# Altium schematic symbol library diploma.SchLib: 30 symbols
Pins are listed as number, name and electrical type; pins without a type are passive.

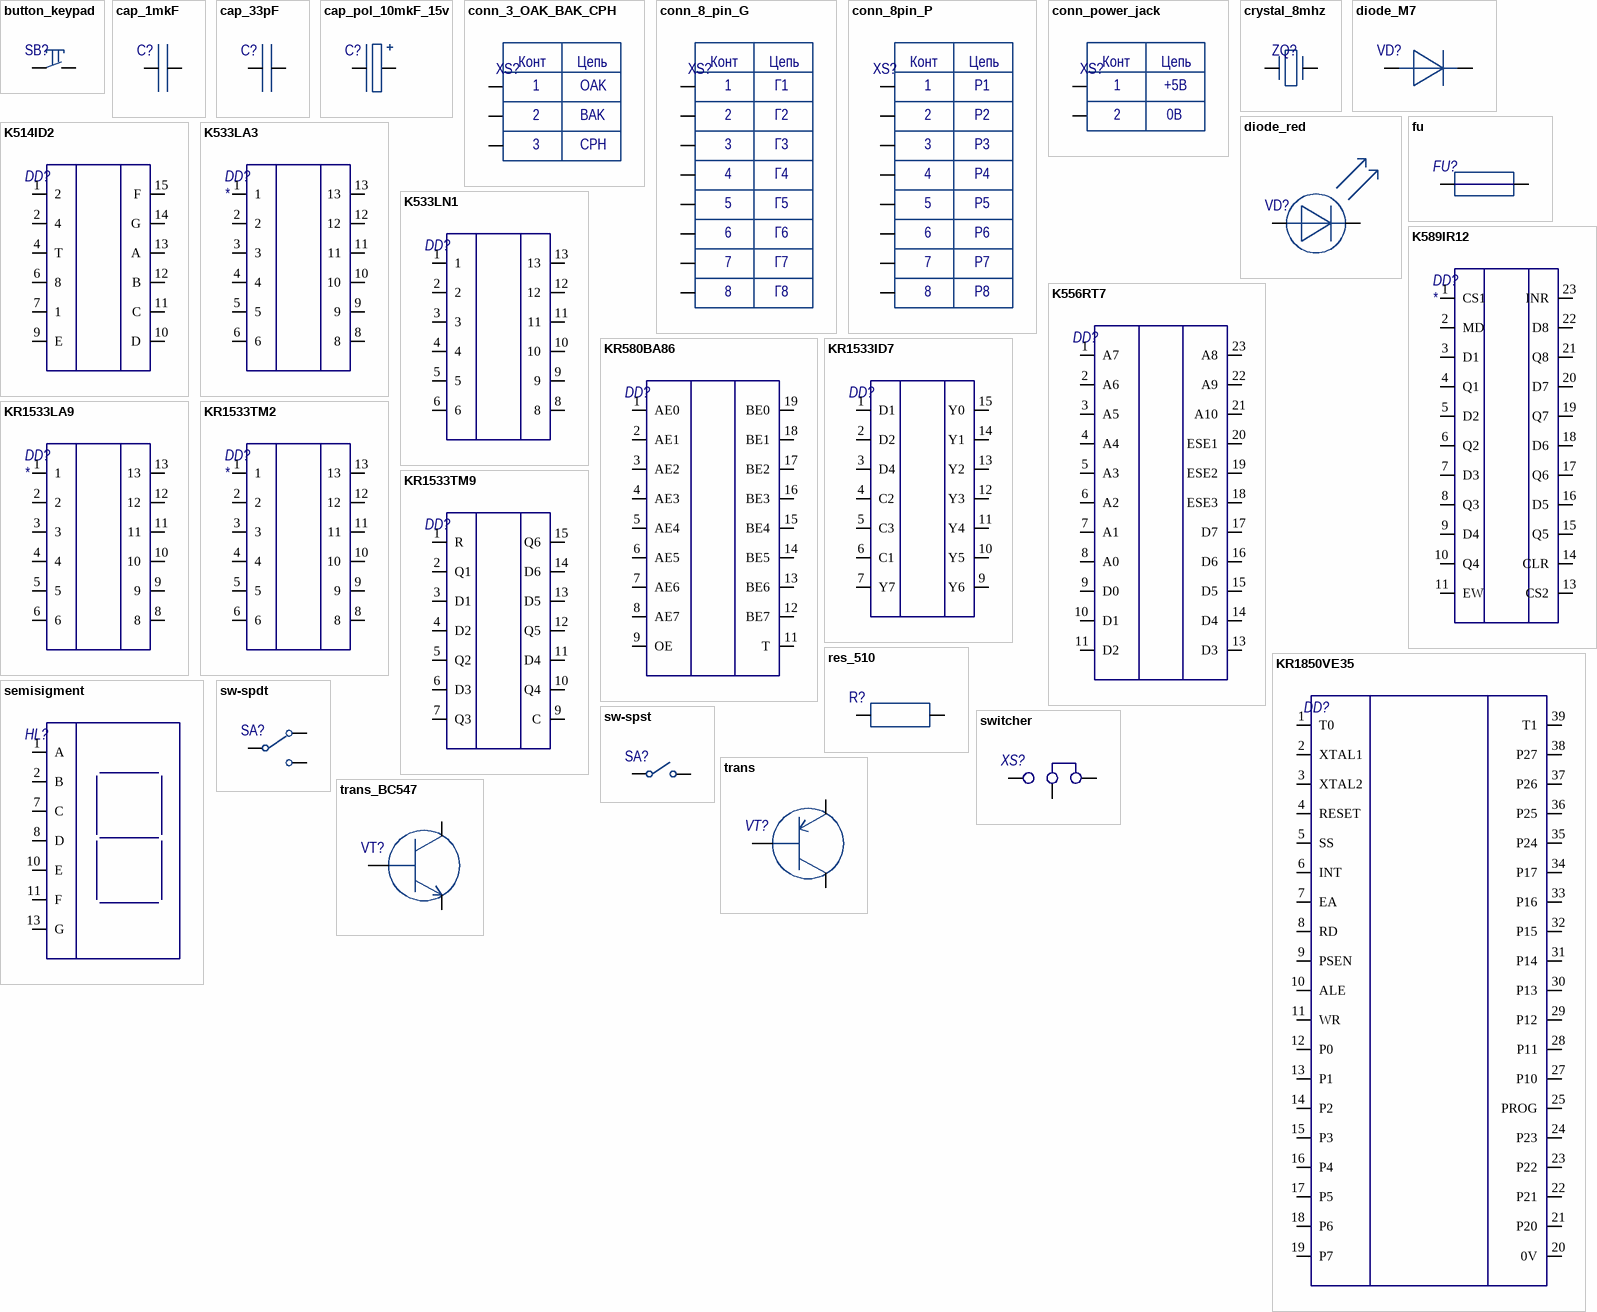
[diagram p0: symbols button_keypad to trans_BC547]

## button_keypad
designator SB?  (value not drawn)
footprint button_SW_1571527-1
pins: 1, 2

## cap_1mkF
designator C?, comment 1mkF  (value not drawn)
footprint CAP_0805_GRM
pins: 1, 2

## cap_33pF
designator C?, comment 33pF  (value not drawn)
footprint CAP_0805_GRM
pins: 1, 2

## cap_pol_10mkF_15v
designator C?, comment pol_1mkF  (value not drawn)
footprint PCAP_6_3x11THRU-ELECT_NCA
pins: 1, 2

## conn_3_OAK_BAK_CPH
designator XS?  (value not drawn)
footprint conn_3pin_TSW-103-05-G-S
pins: 1 VSS, 2 VDD, 3
text: Конт; Цепь; OAK; BAK; CPH

## conn_8_pin_G
designator XS?  (value not drawn)
footprint conn_8pin_TSW-108-05-G-S
pins: 1 VSS, 2 VDD, 3 VO, 4 C/D, 5 *RD, 6 *WR, 7 D0, 8
text: Конт; Цепь; Г1; Г2; Г3; Г4; Г5; Г6; Г7; Г8

## conn_8pin_P
designator XS?  (value not drawn)
footprint conn_8pin_TSW-108-05-G-S
pins: 1 VSS, 2 VDD, 3 VO, 4 C/D, 5 *RD, 6 *WR, 7 D0, 8
text: Конт; Цепь; Р1; Р2; Р3; Р4; Р5; Р6; Р7; Р8

## conn_power_jack
designator XS?  (value not drawn)
footprint PJ-037AH
pins: 1 VSS, 2 VDD
text: Конт; Цепь; +5В; 0В

## crystal_8mhz
designator ZQ?, comment HC-49S  (value not drawn)
footprint CRYSTAL_HC49S_MTC
pins: 1, 2

## diode_M7
designator VD?, comment M7  (value not drawn)
footprint M7_DO-214AC_DTC
pins: 1, 2

## diode_red
designator VD?, comment red_GNL-3012HD  (value not drawn)
footprint LED_151054RS03000
pins: 1, 2

## fu
designator FU?  (value not drawn)
footprint FERRIT_BEAD_C2012X105N
pins: 1, 2

## K514ID2
designator DD?  (value not drawn)
footprint dip-14
pins: 1 2, 2 4, 4 T, 6 8, 7 1, 8 GND hidden, 9 E, 10 D, 11 C, 12 B, 13 A, 14 G, 15 F, 16 Ucc hidden

## K533LA3
designator DD?
footprint SO-14-K533LA3
pins: 1, 2, 3, 4, 5, 6, 8, 9, 10, 11, 12, 13

## K533LN1
designator DD?  (value not drawn)
footprint SO-14-K533LA3
pins: 1, 2, 3, 4, 5, 6, 7 GND hidden, 8, 9, 10, 11, 12, 13, 14 Ucc hidden

## K556RT7
designator DD?  (value not drawn)
footprint DIP-24-KR556RT7
pins: 1 A7, 2 A6, 3 A5, 4 A4, 5 A3, 6 A2, 7 A1, 8 A0, 9 D0, 10 D1, 11 D2, 12 GND hidden, 13 D3, 14 D4, 15 D5, 16 D6, 17 D7, 18 ESE3, 19 ESE2, 20 ESE1, 21 A10, 22 A9, 23 A8, 24 Ucc hidden

## K589IR12
designator DD?
footprint DIP-24-KR556RT7
pins: 1 CS1, 2 MD, 3 D1, 4 Q1, 5 D2, 6 Q2, 7 D3, 8 Q3, 9 D4, 10 Q4, 11 EW, 12 GND hidden, 13 CS2, 14 CLR, 15 Q5, 16 D5, 17 Q6, 18 D6, 19 Q7, 20 D7, 21 Q8, 22 D8, 23 INR, 24 Ucc hidden

## KR580BA86
designator DD?  (value not drawn)
footprint DIP-20
pins: 1 AE0, 2 AE1, 3 AE2, 4 AE3, 5 AE4, 6 AE5, 7 AE6, 8 AE7, 9 OE, 10 GND hidden, 11 T, 12 BE7, 13 BE6, 14 BE5, 15 BE4, 16 BE3, 17 BE2, 18 BE1, 19 BE0, 20 Ucc hidden

## KR1533ID7
designator DD?  (value not drawn)
footprint DIP-16
pins: 1 D1, 2 D2, 3 D4, 4 C2, 5 C3, 6 C1, 7 Y7, 8 GND hidden, 9 Y6, 10 Y5, 11 Y4, 12 Y3, 13 Y2, 14 Y1, 15 Y0, 16 VCC hidden

## KR1533LA9
designator DD?
footprint dip-14
pins: 1, 2, 3, 4, 5, 6, 8, 9, 10, 11, 12, 13

## KR1533TM2
designator DD?
footprint dip-14
pins: 1, 2, 3, 4, 5, 6, 8, 9, 10, 11, 12, 13

## KR1533TM9
designator DD?  (value not drawn)
footprint DIP-16
pins: 1 R, 2 Q1, 3 D1, 4 D2, 5 Q2, 6 D3, 7 Q3, 8 GND hidden, 9 C, 10 Q4, 11 D4, 12 Q5, 13 D5, 14 D6, 15 Q6, 16 Vcc hidden

## KR1850VE35
designator DD?  (value not drawn)
footprint DIP-40
pins: 1 T0, 2 XTAL1, 3 XTAL2, 4 RESET, 5 SS, 6 INT, 7 EA, 8 RD, 9 PSEN, 10 ALE, 11 WR, 12 P0, 13 P1, 14 P2, 15 P3, 16 P4, 17 P5, 18 P6, 19 P7, 20 0V, 21 P20, 22 P21, 23 P22, 24 P23, 25 PROG, 26 GND hidden, 27 P10, 28 P11, 29 P12, 30 P13, 31 P14, 32 P15, 33 P16, 34 P17, 35 P24, 36 P25, 37 P26, 38 P27, 39 T1, 40 Ucc hidden

## res_510
designator R?  (value not drawn)
footprint RES_RC0805
pins: 1, 2

## semisigment
designator HL?  (value not drawn)
footprint LDS-C302RI_10P18X19P10_LUM
pins: 1 A, 2 B, 3 Ucc hidden, 7 C, 8 D, 9 Ucc hidden, 10 E, 11 F, 13 G, 14 Ucc hidden

## sw-spdt
designator SA?  (value not drawn)
footprint SW-SPDT
pins: 1, 2, 3

## sw-spst
designator SA?  (value not drawn)
footprint SW-SPST
pins: 1, 2

## switcher
designator XS?  (value not drawn)
footprint conn_3pin_TSW-103-05-G-S
pins: 1, 2, 3

## trans
designator VT?  (value not drawn)
footprint TO-92-3_ONS
pins: 1 E, 2 B, 3 C

## trans_BC547
designator VT?, comment BC547  (value not drawn)
footprint TO-92-3_ONS
pins: 1 E, 2 B, 3 C